# EAGLE library part LT5537EDDBTRPBF (library LT5537EDDBTRPBF)
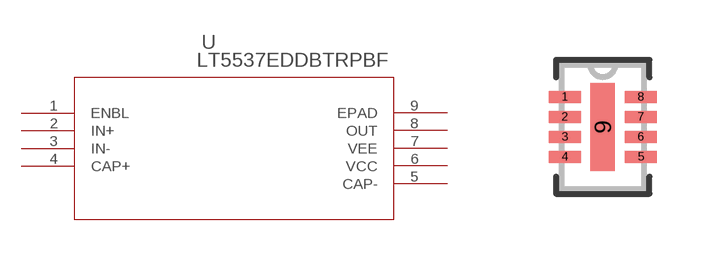
[diagram p0: symbol with the pads of DFN-8_DDB; footprint DFN-8_DDB]

Designator prefix U

## LT5537EDDBTRPBF (Availability: Unavailable; Description: LT5537 - Wide Dynamic Range RF/IF Log Detector; MF: Linear Technology; MP: LT5537EDDB#TRPBF; Package: DFN-8 Linear Technology; Price: 4.63 USD)  [DFN-8_DDB]
1  ENBL  in
2  IN+  in
3  IN-  in
4  CAP+  pas
5  CAP-  pas
6  VCC  pwr
7  VEE  pwr
8  OUT  out
9  EPAD  pas

## Footprint DFN-8_DDB (pad centres in mm)
smd 0.805 x 0.3: 1 -0.952,0.75; 2 -0.952,0.25; 3 -0.952,-0.25; 4 -0.952,-0.75; 5 0.952,-0.75; 6 0.952,-0.25; 7 0.952,0.25; 8 0.952,0.75
smd 0.61 x 2.2: 9 0,0